# Altium footprint library Transistors_rus.PCBLIB: 35 footprints (part 1 of 3)
Each footprint in its own frame and in the unit in brackets; x right, y up, seen from the top. Pads: shape width x height; smd on the part's side, far side on the other; paste and mask are expansions set on the pad; w line width, h text height; cw(c..) or ccw(c..) is an arc to the next point about the centre after c.
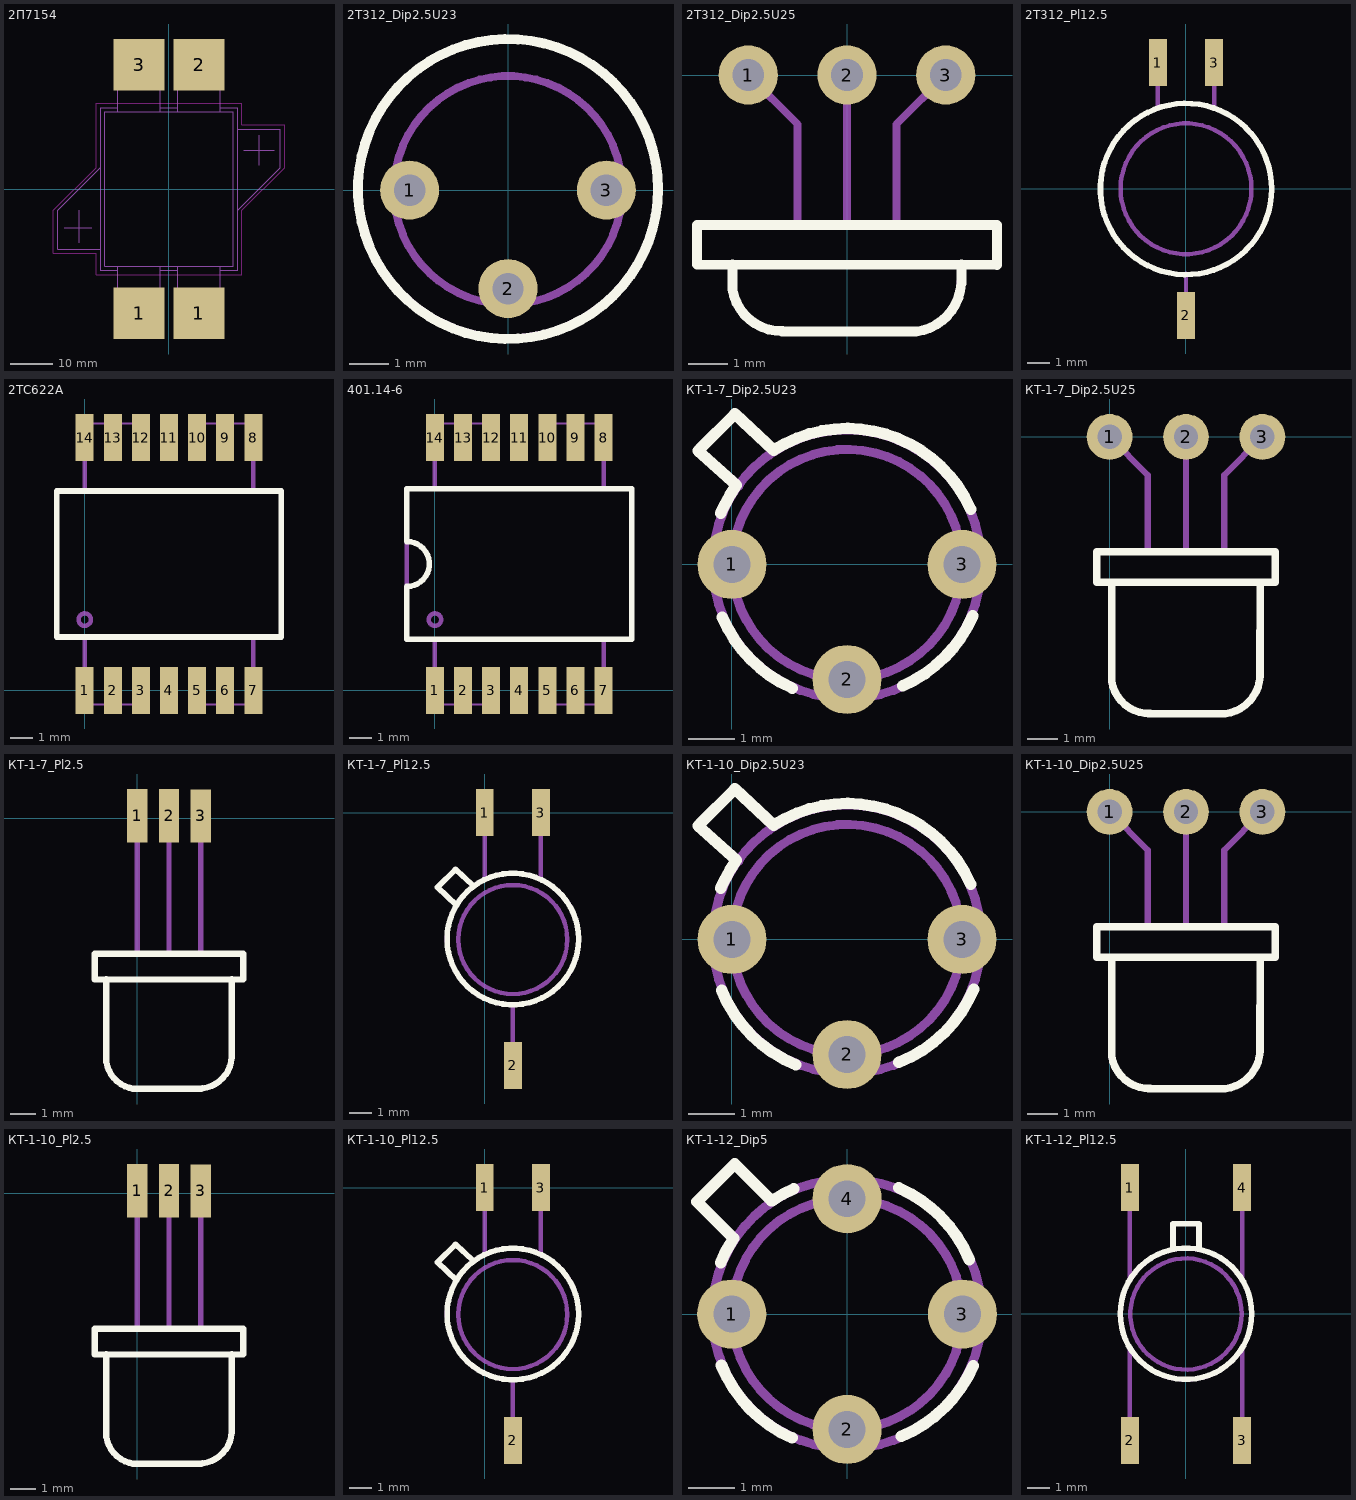
[diagram p0: the footprints below, top view; thin cyan lines are the x and y axes]

## 2П7154 [mm]
height 12
pads (4):
  rect 12x12 smd: 1(-7,-29) 1(7,-29) 2(7,29) 3(-7,29)
Keep-Out Layer:
  lines w0.2: -27,-15 -27,-5 -17,5 -17,20 17,20 17,15 27,15 27,5 17,-5 17,-20 -17,-20 -17,-15 -27,-15
Mechanical 1:
  lines w0.1: -24.5,-9 -18,-9 ; -21,-12.5 -21,-5 ; 17.5,9 24.5,9 ; 21,5.5 21,12.5
  lines w0.2: -16,-14 -26,-14 -26,-5 -16,5 ; -12,-19 -16,-19 -16,19 -12,19 ; -12,18 -12,29 -7,34 -2,34 -2,18 ; -2,-19 2,-19 ; -2,19 2,19 ; 2,-18 2,-34 12,-34 12,-18 ; 2,18 2,34 12,34 12,18 ; 12,-19 16,-19 16,19 12,19 ; 16,-5 26,5 26,14 16,14 17.5,14 ; -15,-18 -15,18 15,18 15,-18 -15,-18 ; -12,-34 -12,-18 -2,-18 -2,-34 -12,-34
  text "И" at -7.86,-17.257 h2.12
  text "И" at 6.14,-17.257 h2.12
  text "З" at -7.728,14.743 h2.12
  text "С" at 6.14,14.743 h2.12
3D body: height 6, standoff -6, extent -26,-33 26,33

## 2Т312_Dip2.5U23 [mm]
height 8.9
pads (3):
  round 1.5 hole 0.8: 1(-2.5,0) 2(0,-2.5) 3(2.5,0)
Top Overlay:
  circle w0.25: c0,0.03 r3.81
Mechanical 1:
  circle w0.2: c0,0 r2.9
  circle w0.2: c0,0.04 r3.8
  text ".Designator" at -1.3,0.8 h1.5
  text "Б" at 1.1,-0.5 h1.5
  text "К" at -1.9,-0.4 h1.5
  text "Э" at -0.4,-2.2 h1.5
3D body: height 7.3, standoff -3, extent -3.65,-3.65 3.65,3.65

## 2Т312_Dip2.5U25 [mm]
height 7.6
pads (3):
  round 1.5 hole 0.8: 1(-2.5,0) 2(0,0) 3(2.5,0)
Top Overlay:
  lines w0.25: -2.903,-5.429 ccw(c-1.655,-5.225) -1.631,-6.489 ; -2.9,-5.4 -2.9,-4.8 ; -1.65,-6.5 1.75,-6.5 ; 1.747,-6.501 ccw(c1.59,-5.205) 2.893,-5.28 ; 2.9,-5.28 2.9,-4.8 ; 3.8,-4.81 -3.8,-4.8 -3.8,-3.8 3.8,-3.8 3.8,-4.8
Mechanical 1:
  lines w0.2: -2.921,-5.316 ccw(c-1.675,-5.235) -1.651,-6.483 ; -2.9,-5.4 -2.9,-4.8 ; -2.5,0 -1.25,-1.25 -1.25,-3.8 ; -1.65,-6.5 1.75,-6.5 ; 0,-3.8 0,0 ; 1.25,-3.8 1.25,-1.25 2.5,0 ; 1.75,-6.513 ccw(c1.575,-5.22) 2.88,-5.241 ; 2.9,-5.28 2.9,-4.8 ; -3.8,-4.8 -3.8,-3.8 3.8,-3.8 3.8,-4.8 -3.8,-4.8
  text ".Designator" at -1.5,-8.3 h1.5
  text "Б" at 1.2,-6.1 h1.5
  text "К" at -2,-6.1 h1.5
  text "Э" at -0.3,-6.1 h1.5
3D body: height 6.92, standoff -3.38, extent -3.65,-6.5 3.65,0.2

## 2Т312_Pl12.5 [mm]
height 7.7
pads (3):
  rect 0.8x2.1 smd: 1(-1.25,5.625) 2(0,-5.625) 3(1.25,5.625)
Top Overlay:
  circle w0.25: c0,0 r3.81
Mechanical 1:
  circle w0.2: c0,0 r3.81
  circle w0.2: c0,0.01 r2.91
  lines w0.2: -1.25,3.6 -1.25,6.25 ; 0,-6.25 0,-3.78 ; 1.25,3.61 1.25,6.25
  text "Э" at -0.35,-2.375 h1.5
  text "К" at -1.75,0.425 h1.5
  text "Б" at 1.05,0.425 h1.5
  text ".Designator" at 2.55,3.925 h1.5
3D body: height 5.9, standoff 0, extent -3.65,-6.25 3.65,6.25

## 2ТС622А [mm]
pads (14):
  rect 0.8x2.1 smd: 1(0,0) 2(1.25,0) 3(2.5,0) 4(3.75,0) 5(5,0) 6(6.25,0) 7(7.5,0) 8(7.5,11.25) 9(6.25,11.25) 10(5,11.25) 11(3.75,11.25) 12(2.5,11.25) 13(1.25,11.25) 14(0,11.25)
Top Overlay:
  lines w0.25: -1.25,6.625 -1.25,8.875 8.75,8.875 8.75,2.375 -1.25,2.375 -1.25,6.65
Mechanical 1:
  circle w0.2: c0,3.15 r0.275
  lines w0.1: 0,-0.625 2.75,-0.625 ; 0,11.875 2.75,11.875 ; 3.625,-0.625 3.875,-0.625 ; 3.625,11.875 3.875,11.875 ; 4.75,-0.625 7.5,-0.625 ; 4.75,11.875 7.5,11.875
  lines w0.2: 0,-0.625 0,2.375 ; 0,8.875 0,11.875 ; 7.5,-0.625 7.5,2.375 ; 7.5,8.875 7.5,11.875 ; -1.25,2.375 8.75,2.375 8.75,8.875 -1.25,8.875 -1.25,2.375
  text ".Designator" at 2.22,6.15 h1.5
  text ".Comment" at 0.63,4.45 h1.5
  text "14" at 0.176,9.168 h1.5

## 401.14-6 [mm]
height 2.3
pads (14):
  rect 0.8x2.1 smd: 1(0,0) 2(1.25,0) 3(2.5,0) 4(3.75,0) 5(5,0) 6(6.25,0) 7(7.5,0) 8(7.5,11.25) 9(6.25,11.25) 10(5,11.25) 11(3.75,11.25) 12(2.5,11.25) 13(1.25,11.25) 14(0,11.25)
Top Overlay:
  lines w0.25: -1.25,2.275 8.75,2.275 8.75,8.975 -1.25,8.975 -1.25,6.625 cw(c-1.25,5.625) -1.25,4.625 -1.25,2.275
Mechanical 1:
  circle w0.2: c0,3.15 r0.275
  lines w0.1: 0,-0.625 2.75,-0.625 ; 0,11.875 2.75,11.875 ; 3.625,-0.625 3.875,-0.625 ; 3.625,11.875 3.875,11.875 ; 4.75,-0.625 7.5,-0.625 ; 4.75,11.875 7.5,11.875
  lines w0.2: 0,-0.625 0,2.275 ; 0,8.975 0,11.875 ; 7.5,-0.625 7.5,2.275 ; 7.5,8.975 7.5,11.875 ; -1.25,2.275 8.75,2.275 8.75,8.975 -1.25,8.975 -1.25,2.275
  text ".Designator" at 2.7,6.3 h1.5
  text ".Comment" at 0.8,4.2 h1.5
  text "14" at -0.148,9.621 h1.5
3D body: height 1.97, standoff 0, extent -1.2,-0.6 8.8,11.9

## КТ-1-7_Dip2.5U23 [mm]
height 9
pads (3):
  round 1.5 hole 0.8: 1(0,0) 2(2.5,-2.5) 3(5,0)
Top Overlay:
  lines w0.25: -0.735,2.47 0.096,1.721 ; -0.705,2.505 0.065,3.27 0.908,2.481 ; -0.239,1.116 cw(c2.47,0.015) 0.092,1.717 ; -0.207,-1.145 ccw(c2.475,-0.025) 1.306,-2.686 ; 0.911,2.484 cw(c2.504,0.026) 5.189,1.195 ; 3.716,-2.636 ccw(c2.545,0.055) 5.236,-1.116
Mechanical 1:
  circle w0.2: c2.5,0 r2.5
  circle w0.2: c2.5,0.005 r2.92
  lines w0.2: -0.745,2.455 0.015,3.22 ; -0.735,2.47 0.15,1.71 ; 0.065,3.27 0.93,2.46 ; 0.78,2.37 0.8,2.37
  text "Б" at 0.7,-0.7 h1.5
  text "К" at 3.4,-0.7 h1.5
  text "Э" at 2.1,-1.9 h1.5
  text ".Designator" at 1.4,1 h1.5

## КТ-1-7_Dip2.5U25 [mm]
height 5
pads (3):
  round 1.5 hole 0.8: 1(0,0) 2(2.5,0) 3(5,0)
Top Overlay:
  lines w0.25: 0.071,-7.997 ccw(c1.305,-7.795) 1.329,-9.045 ; 0.075,-8.005 0.075,-4.755 ; 1.265,-9.05 3.775,-9.05 ; 3.777,-9.051 ccw(c3.62,-7.755) 4.923,-7.826 ; 4.92,-7.825 4.925,-4.75 ; -0.42,-4.75 5.42,-4.75 5.42,-3.75 -0.42,-3.75 -0.42,-4.75
Mechanical 1:
  lines w0.2: 0,0 1.25,-1.25 1.25,-3.75 ; 0.068,-8.027 ccw(c1.295,-7.795) 1.319,-9.043 ; 0.075,-7.99 0.075,-4.75 ; 1.26,-9.05 3.8,-9.05 ; 2.5,-3.725 2.5,0 ; 3.736,-9.04 ccw(c3.625,-7.75) 4.92,-7.77 ; 3.75,-3.75 3.75,-1.25 5,0 ; 4.925,-7.825 4.925,-4.75 ; 5.4,-4.75 -0.42,-4.75 -0.42,-3.75 5.42,-3.75 5.42,-4.75
  text ".Designator" at -0.7,-10.3 h1.5
  text "К" at 3.6,-7 h1.5
  text "Э" at 2.2,-7 h1.5
  text "Б" at 0.8,-7 h1.5

## КТ-1-7_Pl2.5 [mm]
height 5.84
pads (3):
  rect 0.8x2.1 smd: 1(0,0.105) 2(1.25,0.11) 3(2.505,0.1)
Top Overlay:
  lines w0.25: -1.67,-6.335 4.17,-6.325 4.17,-5.325 -1.67,-5.325 -1.67,-6.325 ; -1.225,-9.575 -1.225,-6.33 ; -1.209,-9.592 ccw(c0.025,-9.39) -0.147,-10.628 ; -0.185,-10.625 2.525,-10.625 ; 2.567,-10.616 ccw(c2.41,-9.32) 3.713,-9.391 ; 3.725,-9.395 3.725,-6.33
Mechanical 1:
  lines w0.2: -1.225,-6.325 -1.225,-9.565 ccw(c0.009,-9.376) 0.033,-10.624 ; -0.2,-10.62 2.531,-10.62 ; 0,-5.3 0,0.375 ; 1.25,-5.3 1.25,0.375 ; 2.5,-5.3 2.5,0.375 ; 2.531,-10.615 ccw(c2.42,-9.325) 3.715,-9.346 ; 3.725,-9.325 3.725,-6.334 ; 4.15,-6.325 -1.67,-6.325 -1.67,-5.325 4.17,-5.325 4.17,-6.325
  text "К" at 2.3,-8.4 h1.5
  text "Б" at -0.5,-8.4 h1.5
  text "Э" at 1,-8.4 h1.5
  text ".Designator" at -0.3,-12.1 h1.5

## КТ-1-7_Pl12.5 [mm]
height 8
pads (3):
  rect 0.8x2.1 smd: 1(0,0) 2(1.25,-11.25) 3(2.5,0)
Top Overlay:
  circle w0.25: c1.25,-5.625 r2.925
  lines w0.25: -2.1,-3.325 -1.25,-4.125 ; -2.07,-3.29 -1.3,-2.525 -0.55,-3.225 ; -1.675,-5.625 ccw(c-1.673,-5.625) -1.67,-5.625 cw(c-1.673,-5.625) -1.675,-5.625
Mechanical 1:
  circle w0.2: c1.25,-5.625 r2.93
  lines w0.2: -2.11,-3.34 -1.35,-2.575 ; -2.1,-3.325 -1.25,-4.125 ; -1.3,-2.525 -0.5,-3.275 ; -1.175,-5.669 ccw(c1.25,-5.647) -1.175,-5.626 ; 0,-2.975 0,0.625 ; 1.25,-11.875 1.25,-8.525 ; 2.5,-2.975 2.5,0.625
  text "Б" at -0.3,-5.2 h1.5
  text "К" at 1.9,-5.2 h1.5
  text "Э" at 0.9,-7.6 h1.5
  text ".Designator" at 3.5,-2.4 h1.5

## КТ-1-10_Dip2.5U23 [mm]
height 9
pads (3):
  round 1.5 hole 0.8: 1(0,0) 2(2.5,-2.5) 3(5,0)
Top Overlay:
  lines w0.25: -0.735,2.47 0.096,1.721 ; -0.705,2.505 0.065,3.27 0.908,2.481 ; -0.239,1.116 cw(c2.47,0.015) 0.092,1.717 ; -0.222,-1.109 ccw(c2.475,-0.025) 1.391,-2.722 ; 0.911,2.484 cw(c2.504,0.026) 5.189,1.195 ; 3.629,-2.672 ccw(c2.545,0.055) 5.251,-1.08
Mechanical 1:
  circle w0.2: c2.5,0.005 r2.92
  circle w0.2: c2.5,0 r2.5
  lines w0.2: -0.745,2.455 0.015,3.22 ; -0.735,2.47 0.15,1.71 ; 0.065,3.27 0.93,2.46 ; 0.78,2.37 0.8,2.37
  text ".Designator" at 1.4,1 h1.5
  text "Э" at 0.9,-0.6 h1.5
  text "К" at 3.4,-0.7 h1.5
  text "Б" at 2.2,-1.7 h1.5

## КТ-1-10_Dip2.5U25 [mm]
height 5
pads (3):
  round 1.5 hole 0.8: 1(0,0) 2(2.5,0) 3(5,0)
Top Overlay:
  lines w0.25: 0.071,-7.997 ccw(c1.305,-7.795) 1.329,-9.045 ; 0.075,-8.005 0.075,-4.755 ; 1.265,-9.05 3.775,-9.05 ; 3.777,-9.051 ccw(c3.62,-7.755) 4.923,-7.826 ; 4.92,-7.825 4.925,-4.75 ; -0.42,-4.75 5.42,-4.75 5.42,-3.75 -0.42,-3.75 -0.42,-4.75
Mechanical 1:
  lines w0.2: 0,0 1.25,-1.25 1.25,-3.75 ; 0.068,-8.027 ccw(c1.295,-7.795) 1.319,-9.043 ; 0.075,-7.99 0.075,-4.75 ; 1.26,-9.05 3.8,-9.05 ; 2.5,-3.725 2.5,0 ; 3.736,-9.04 ccw(c3.625,-7.75) 4.92,-7.77 ; 3.75,-3.75 3.75,-1.25 5,0 ; 4.925,-7.825 4.925,-4.75 ; 5.4,-4.75 -0.42,-4.75 -0.42,-3.75 5.42,-3.75 5.42,-4.75
  text ".Designator" at -0.7,-10.3 h1.5
  text "К" at 3.6,-7 h1.5
  text "Э" at 0.6,-7 h1.5
  text "Б" at 2.1,-7 h1.5

## КТ-1-10_Pl2.5 [mm]
height 5.84
pads (3):
  rect 0.8x2.1 smd: 1(0,0.105) 2(1.25,0.11) 3(2.505,0.1)
Top Overlay:
  lines w0.25: -1.67,-6.335 4.17,-6.325 4.17,-5.325 -1.67,-5.325 -1.67,-6.325 ; -1.225,-9.575 -1.225,-6.33 ; -1.209,-9.592 ccw(c0.025,-9.39) -0.147,-10.628 ; -0.185,-10.625 2.525,-10.625 ; 2.567,-10.616 ccw(c2.41,-9.32) 3.713,-9.391 ; 3.725,-9.395 3.725,-6.33
Mechanical 1:
  lines w0.2: -1.225,-6.325 -1.225,-9.565 ccw(c0.009,-9.376) 0.033,-10.624 ; -0.2,-10.62 2.531,-10.62 ; 0,-5.3 0,0.375 ; 1.25,-5.3 1.25,0.375 ; 2.5,-5.3 2.5,0.375 ; 2.531,-10.615 ccw(c2.42,-9.325) 3.715,-9.346 ; 3.725,-9.325 3.725,-6.334 ; 4.15,-6.325 -1.67,-6.325 -1.67,-5.325 4.17,-5.325 4.17,-6.325
  text ".Designator" at -0.3,-12.1 h1.5
  text "Э" at -0.5,-8.4 h1.5
  text "Б" at 0.9,-8.4 h1.5
  text "К" at 2.3,-8.4 h1.5

## КТ-1-10_Pl12.5 [mm]
height 8
pads (3):
  rect 0.8x2.1 smd: 1(0,0) 2(1.25,-11.25) 3(2.5,0)
Top Overlay:
  circle w0.25: c1.25,-5.625 r2.925
  lines w0.25: -2.1,-3.325 -1.25,-4.125 ; -2.07,-3.29 -1.3,-2.525 -0.55,-3.225 ; -1.675,-5.625 ccw(c-1.673,-5.625) -1.67,-5.625 cw(c-1.673,-5.625) -1.675,-5.625
Mechanical 1:
  circle w0.2: c1.25,-5.625 r2.93
  lines w0.2: -2.11,-3.34 -1.35,-2.575 ; -2.1,-3.325 -1.25,-4.125 ; -1.3,-2.525 -0.5,-3.275 ; -1.175,-5.669 ccw(c1.25,-5.647) -1.175,-5.626 ; 0,-2.975 0,0.625 ; 1.25,-11.875 1.25,-8.525 ; 2.5,-2.975 2.5,0.625
  text "Б" at 0.9,-7.6 h1.5
  text "К" at 1.9,-5.2 h1.5
  text "Э" at -0.2,-5.2 h1.5
  text ".Designator" at 3.5,-2.4 h1.5

## КТ-1-12_Dip5 [mm]
height 7.3
pads (4):
  round 1.5 hole 0.8: 1(-2.5,0) 2(0,-2.5) 3(2.5,0) 4(0,2.5)
Top Overlay:
  lines w0.25: -2.739,1.116 cw(c-0.03,0.015) -2.463,1.637 ; -2.722,-1.109 ccw(c-0.025,-0.025) -1.194,-2.686 ; -2.461,1.64 -3.253,2.432 -2.432,3.253 -1.64,2.461 ; -1.634,2.454 cw(c0.004,0.026) -1.151,2.718 ; 1.116,2.736 cw(c-0.055,0.045) 2.651,1.18 ; 1.18,-2.651 ccw(c0.045,0.055) 2.736,-1.116
Mechanical 1:
  circle w0.2: c0,0 r2.5
  circle w0.2: c0,0.005 r2.92
  lines w0.2: -2.461,1.64 -3.253,2.432 -2.432,3.253 -1.64,2.461 ; -1.72,2.37 -1.7,2.37
  text ".Designator" at -1.1,3.7 h1.5
  text "И" at -1.9,-0.4 h1.5
  text "С" at -0.5,-1.6 h1.5
  text "З" at 1,-0.4 h1.5
  text "К" at -0.5,1 h1.5
3D body: height 9.3, standoff -3.6, extent -3.219,-2.911 2.911,3.219

## КТ-1-12_Pl12.5 [mm]
height 7.3
pads (4):
  rect 0.8x2.1 smd: 1(-2.5,5.625) 2(-2.5,-5.625) 3(2.5,-5.625) 4(2.5,5.625)
Top Overlay:
  circle w0.25: c0,0.01 r2.925
  lines w0.25: -0.58,2.9 -0.58,4.02 0.58,4.02 0.58,2.9
Mechanical 1:
  circle w0.2: c0,0 r2.925
  circle w0.2: c0,0 r2.475
  lines w0.2: -2.5,-6.25 -2.5,-1.525 ; -2.5,1.525 -2.5,6.25 ; -0.58,2.9 -0.58,4.02 0.58,4.02 0.58,2.9 ; 2.5,-6.25 2.5,-1.525 ; 2.5,1.525 2.5,6.25
  text ".Designator" at -1.1,4.825 h1.5
  text "И" at -1.8,0.425 h1.5
  text "С" at -1.8,-1.275 h1.5
  text "З" at 1.1,-1.275 h1.5
  text "К" at 0.9,0.425 h1.5
3D body: height 8.56, standoff 0, extent -2.911,-6.25 2.911,6.25